# Altium integrated library TI Power Management PCMCIA and USB.IntLib: 328 symbols (part 12 of 14)
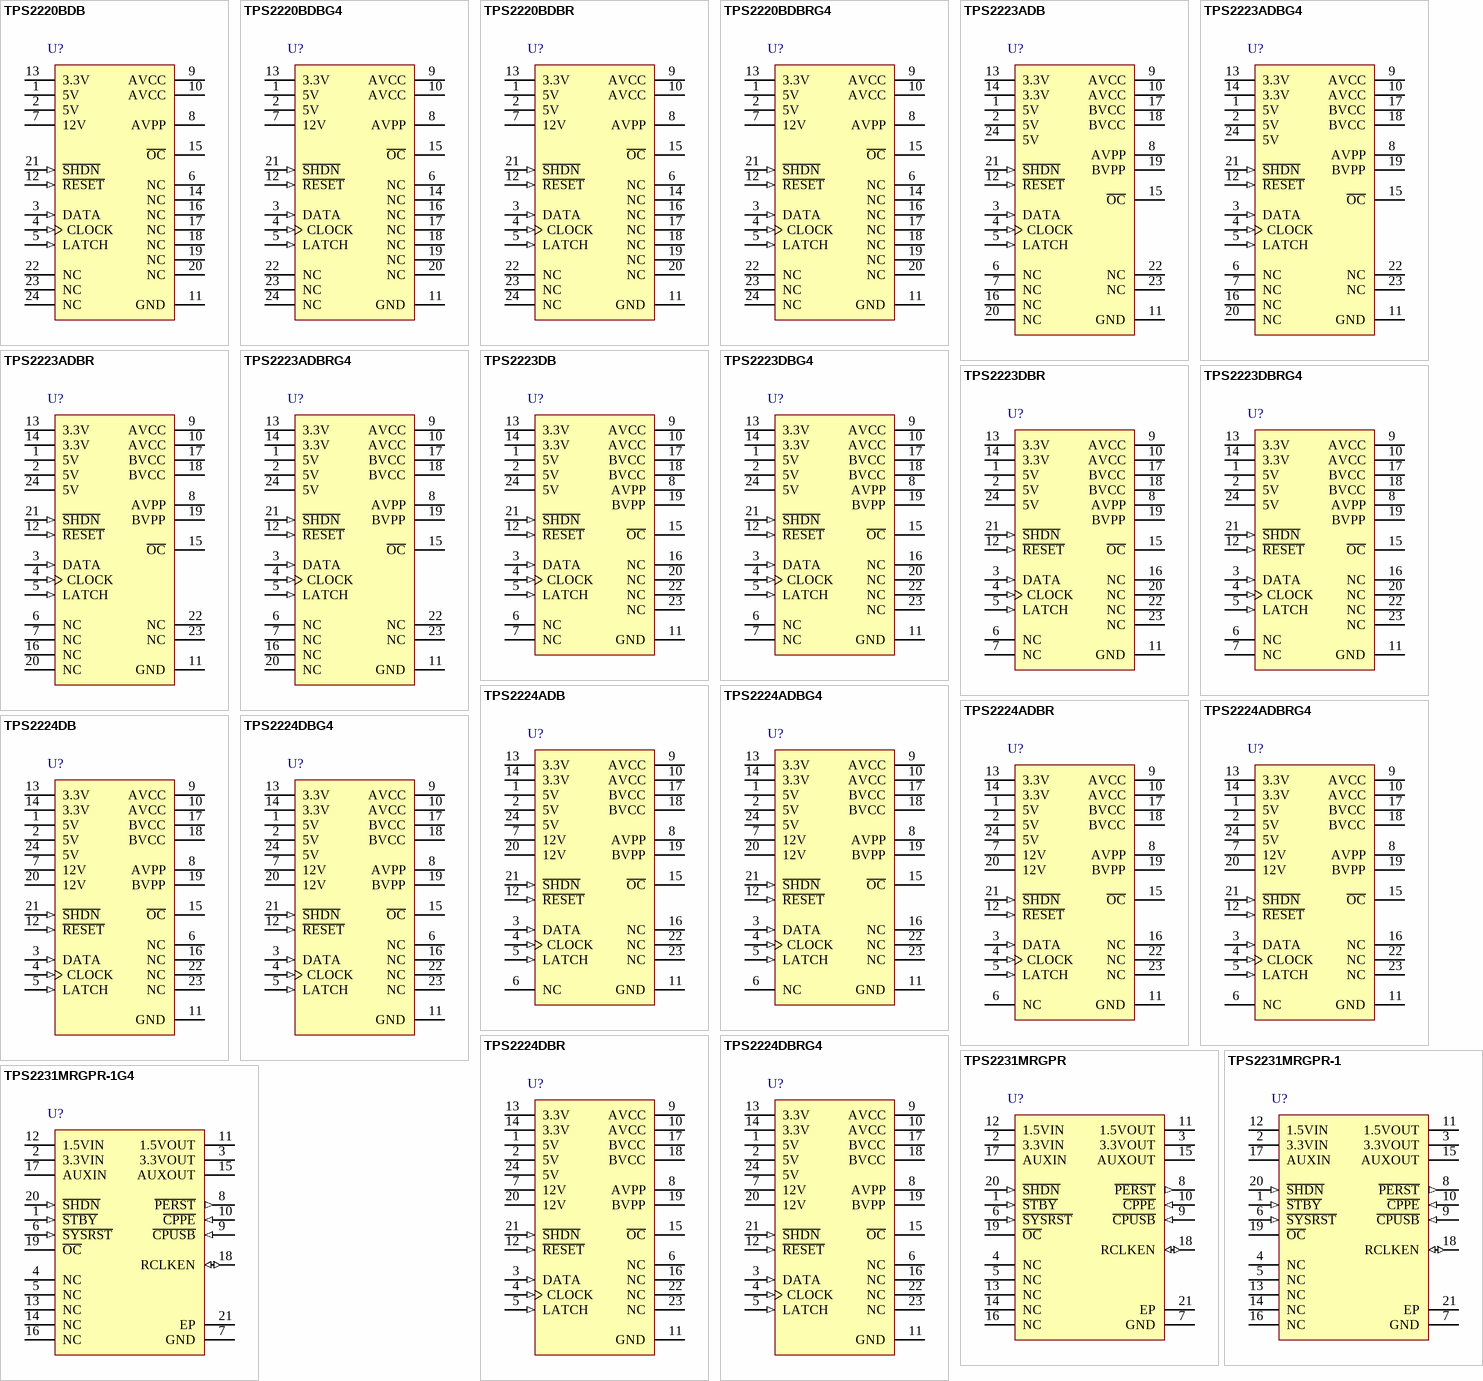
[diagram p21: symbols TPS2220BDB to TPS2231MRGPR-1G4]

## TPS2231MRGPR-1
designator U?
ExpressCard Single Power Interface Switch, -40 to 85 degC, 20-pin QFN (RGP), Green (RoHS & no Sb/Br); Manufacturer: Texas Instruments; PartNumber: TPS2231MRGPR-1; 3V rDS(on)(Typ)(mOhm): 45; Adjustable Current Limit(Min)(A): 2.5; Curr/Temp Protection: TRUE; Interface: Parallel; Ports: 1; SubFamily: PCMCIA/Cardbus Switch Matrix; DatasheetVersion: SLVS536J; PackageVersion: revG, Jul-2011; PackageReference: RGP20-2200X2200TP; PackageDescription: 20-Pin Plastic Quad Flatpack No-Lead, 4 x 4 mm Body, 0.5 mm Pitch, 2.2 x 2.2 mm Exposed Pad; Supplier 1: Digi-Key; Supplier Part Number 1: TPS2231MRGPR-1-ND; Supplier 2: Newark; Supplier Part Number 2: 58M1280; Supplier 3: Mouser; Supplier Part Number 3: 595-TPS2231MRGPR-1; 5V rDS(on)(Typ)(mOhm): 45; Over Current Reporting: TRUE; Over Temp Reporting: TRUE; Single: TRUE; Single Channel: TRUE; Mounting Technology: Surface Mount; ComponentLink1Description: Datasheet; ComponentLink1URL: http://www.ti.com/general/docs/lit/getliterature.tsp?genericPartNumber=TPS2231&fileType=pdf
footprint RGP20-2200X2200TP (QFN, 20-Leads, Body 4x4mm, Pitch 0.5mm, Thermal Pad 2.2x2.2mm, TI Recommended)
pins: 1 ~{STBY} (in) "Standby input - active low, logic level signal. Internally pulled up to AUXIN", 2 3.3VIN (power) "3.3-V input for 3.3VOUT", 3 3.3VOUT (power) "Switched output that delivers 0 V, 3.3 V or high impedance to card", 4 NC "No connection", 5 NC "No connection", 6 ~{SYSRST} (in) "System Reset input - active low, logic level signal. Internally pulled up to AUXIN", 7 GND (power) "Ground", 8 ~{PERST} (out) "A logic level power good to slot 0 (with delay)", 9 ~{CPUSB} (in) "Card Present input for USB cards. Internally pulled up to AUXIN.", 10 ~{CPPE} (in) "Card Present input for PCI Express cards. Internally pulled up to AUXIN", 11 1.5VOUT (power) "Switched output that delivers 0 V, 1.5 V or high impedance to card", 12 1.5VIN (power) "1.5-V input for 1.5VOUT", 13 NC "No connection", 14 NC "No connection", 15 AUXOUT (power) "Switched output that delivers 0 V, AUX or high impedance to card", 16 NC "No connection", 17 AUXIN (power) "AUX input for AUXOUT and chip power", 18 RCLKEN (io) "Reference Clock Enable signal. As an output, a logic level power good to host for slot 0 (no delay - open drain). As an input, if kept inactive (low) by the host, prevents P\E\R\S\T\ FROM BEING de-asserted. Internally pulled (See Datasheet)", 19 ~{OC} (oc) "Overcurrent status output for slot 0 (open drain)", 20 ~{SHDN} (in) "Shutdown input - active low, logic level signal. Internally pulled up to AUXIN", 21 EP

## TPS2231MRGPR-1G4
designator U?
ExpressCard Single Power Interface Switch, -40 to 85 degC, 20-pin QFN (RGP), Green (RoHS & no Sb/Br); Manufacturer: Texas Instruments; PartNumber: TPS2231MRGPR-1G4; 3V rDS(on)(Typ)(mOhm): 45; Adjustable Current Limit(Min)(A): 2.5; Curr/Temp Protection: TRUE; Interface: Parallel; Ports: 1; SubFamily: PCMCIA/Cardbus Switch Matrix; DatasheetVersion: SLVS536J; PackageVersion: revG, Jul-2011; PackageReference: RGP20-2200X2200TP; PackageDescription: 20-Pin Plastic Quad Flatpack No-Lead, 4 x 4 mm Body, 0.5 mm Pitch, 2.2 x 2.2 mm Exposed Pad; Supplier 1: Digi-Key; Supplier Part Number 1: TPS2231MRGPR-1G4-ND; Supplier 2: Newark; Supplier Part Number 2: 60M1786; Supplier 3: Mouser; Supplier Part Number 3: 595-TPS2231MRGPR-1G4; 5V rDS(on)(Typ)(mOhm): 45; Over Current Reporting: TRUE; Over Temp Reporting: TRUE; Single: TRUE; Single Channel: TRUE; Mounting Technology: Surface Mount; ComponentLink1Description: Datasheet; ComponentLink1URL: http://www.ti.com/general/docs/lit/getliterature.tsp?genericPartNumber=TPS2231&fileType=pdf
footprint RGP20-2200X2200TP (QFN, 20-Leads, Body 4x4mm, Pitch 0.5mm, Thermal Pad 2.2x2.2mm, TI Recommended)
pins: 1 ~{STBY} (in) "Standby input - active low, logic level signal. Internally pulled up to AUXIN", 2 3.3VIN (power) "3.3-V input for 3.3VOUT", 3 3.3VOUT (power) "Switched output that delivers 0 V, 3.3 V or high impedance to card", 4 NC "No connection", 5 NC "No connection", 6 ~{SYSRST} (in) "System Reset input - active low, logic level signal. Internally pulled up to AUXIN", 7 GND (power) "Ground", 8 ~{PERST} (out) "A logic level power good to slot 0 (with delay)", 9 ~{CPUSB} (in) "Card Present input for USB cards. Internally pulled up to AUXIN.", 10 ~{CPPE} (in) "Card Present input for PCI Express cards. Internally pulled up to AUXIN", 11 1.5VOUT (power) "Switched output that delivers 0 V, 1.5 V or high impedance to card", 12 1.5VIN (power) "1.5-V input for 1.5VOUT", 13 NC "No connection", 14 NC "No connection", 15 AUXOUT (power) "Switched output that delivers 0 V, AUX or high impedance to card", 16 NC "No connection", 17 AUXIN (power) "AUX input for AUXOUT and chip power", 18 RCLKEN (io) "Reference Clock Enable signal. As an output, a logic level power good to host for slot 0 (no delay - open drain). As an input, if kept inactive (low) by the host, prevents P\E\R\S\T\ FROM BEING de-asserted. Internally pulled (See Datasheet)", 19 ~{OC} (oc) "Overcurrent status output for slot 0 (open drain)", 20 ~{SHDN} (in) "Shutdown input - active low, logic level signal. Internally pulled up to AUXIN", 21 EP

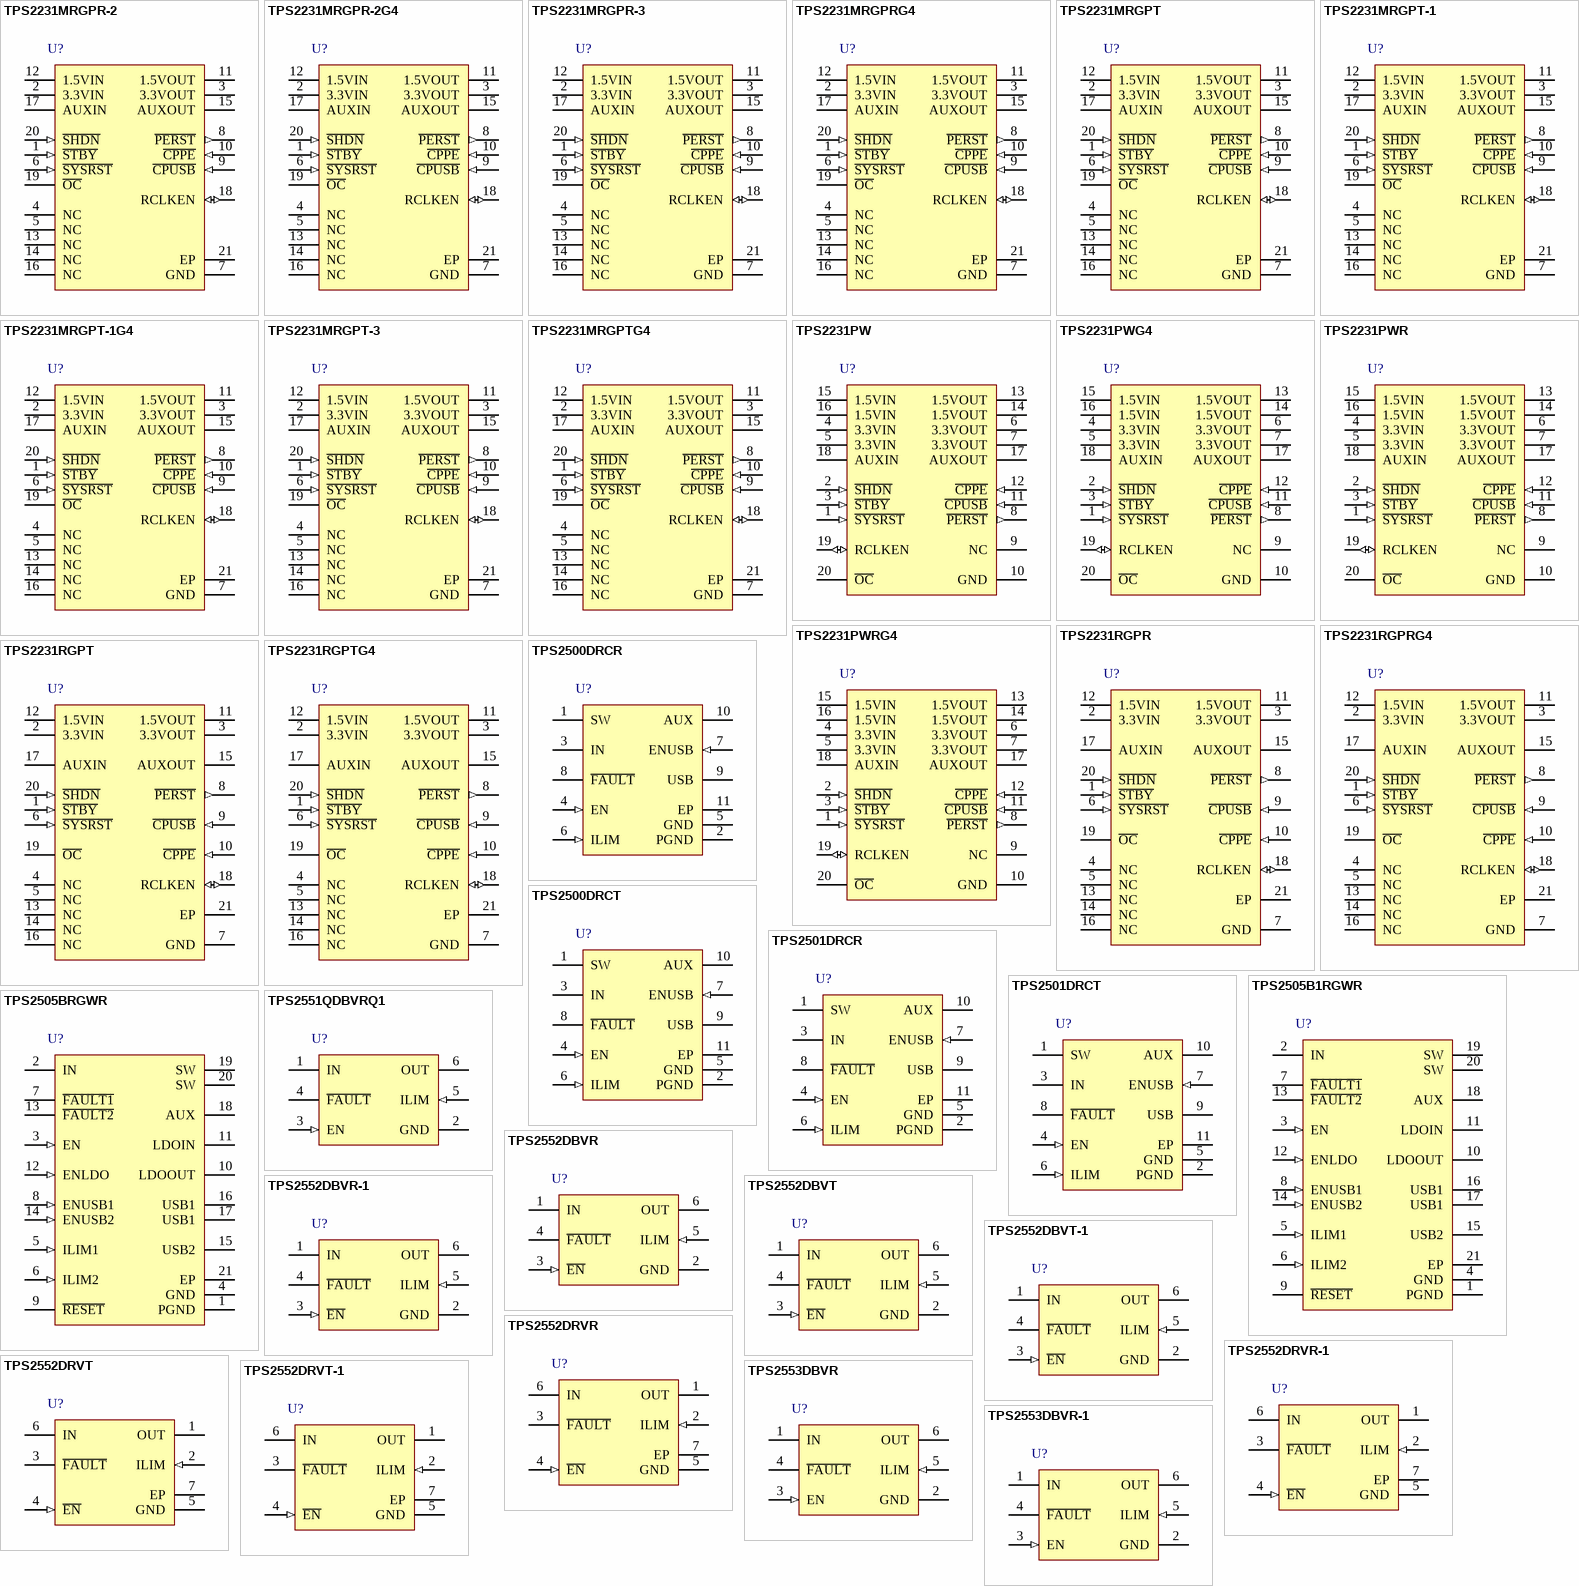
[diagram p9: symbols TPS2231MRGPR-2 to TPS2553DBVR-1]

## TPS2231MRGPR-2
designator U?
ExpressCard Single Power Interface Switch, -40 to 85 degC, 20-pin QFN (RGP), Green (RoHS & no Sb/Br); Manufacturer: Texas Instruments; PartNumber: TPS2231MRGPR-2; 3V rDS(on)(Typ)(mOhm): 45; Adjustable Current Limit(Min)(A): 2.5; Curr/Temp Protection: TRUE; Interface: Parallel; Ports: 1; SubFamily: PCMCIA/Cardbus Switch Matrix; DatasheetVersion: SLVS536J; PackageVersion: revG, Jul-2011; PackageReference: RGP20-2200X2200TP; PackageDescription: 20-Pin Plastic Quad Flatpack No-Lead, 4 x 4 mm Body, 0.5 mm Pitch, 2.2 x 2.2 mm Exposed Pad; Supplier 1: Digi-Key; Supplier Part Number 1: TPS2231MRGPR-2-ND; Supplier 2: Newark; Supplier Part Number 2: 95M0029; Supplier 3: Mouser; Supplier Part Number 3: 595-TPS2231MRGPR-2; 5V rDS(on)(Typ)(mOhm): 45; Over Current Reporting: TRUE; Over Temp Reporting: TRUE; Single: TRUE; Single Channel: TRUE; Mounting Technology: Surface Mount; ComponentLink1Description: Datasheet; ComponentLink1URL: http://www.ti.com/general/docs/lit/getliterature.tsp?genericPartNumber=TPS2231&fileType=pdf
footprint RGP20-2200X2200TP (QFN, 20-Leads, Body 4x4mm, Pitch 0.5mm, Thermal Pad 2.2x2.2mm, TI Recommended)
pins: 1 ~{STBY} (in) "Standby input - active low, logic level signal. Internally pulled up to AUXIN", 2 3.3VIN (power) "3.3-V input for 3.3VOUT", 3 3.3VOUT (power) "Switched output that delivers 0 V, 3.3 V or high impedance to card", 4 NC "No connection", 5 NC "No connection", 6 ~{SYSRST} (in) "System Reset input - active low, logic level signal. Internally pulled up to AUXIN", 7 GND (power) "Ground", 8 ~{PERST} (out) "A logic level power good to slot 0 (with delay)", 9 ~{CPUSB} (in) "Card Present input for USB cards. Internally pulled up to AUXIN.", 10 ~{CPPE} (in) "Card Present input for PCI Express cards. Internally pulled up to AUXIN", 11 1.5VOUT (power) "Switched output that delivers 0 V, 1.5 V or high impedance to card", 12 1.5VIN (power) "1.5-V input for 1.5VOUT", 13 NC "No connection", 14 NC "No connection", 15 AUXOUT (power) "Switched output that delivers 0 V, AUX or high impedance to card", 16 NC "No connection", 17 AUXIN (power) "AUX input for AUXOUT and chip power", 18 RCLKEN (io) "Reference Clock Enable signal. As an output, a logic level power good to host for slot 0 (no delay - open drain). As an input, if kept inactive (low) by the host, prevents P\E\R\S\T\ FROM BEING de-asserted. Internally pulled (See Datasheet)", 19 ~{OC} (oc) "Overcurrent status output for slot 0 (open drain)", 20 ~{SHDN} (in) "Shutdown input - active low, logic level signal. Internally pulled up to AUXIN", 21 EP

## TPS2231MRGPR-2G4
designator U?
ExpressCard Single Power Interface Switch, -40 to 85 degC, 20-pin QFN (RGP), Green (RoHS & no Sb/Br); Manufacturer: Texas Instruments; PartNumber: TPS2231MRGPR-2G4; 3V rDS(on)(Typ)(mOhm): 45; Adjustable Current Limit(Min)(A): 2.5; Curr/Temp Protection: TRUE; Interface: Parallel; Ports: 1; SubFamily: PCMCIA/Cardbus Switch Matrix; DatasheetVersion: SLVS536J; PackageVersion: revG, Jul-2011; PackageReference: RGP20-2200X2200TP; PackageDescription: 20-Pin Plastic Quad Flatpack No-Lead, 4 x 4 mm Body, 0.5 mm Pitch, 2.2 x 2.2 mm Exposed Pad; Supplier 1: Digi-Key; Supplier Part Number 1: TPS2231MRGPR-2G4-ND; Supplier 2: Mouser; Supplier Part Number 2: 595-TPS2231MRGPR-2G4; 5V rDS(on)(Typ)(mOhm): 45; Over Current Reporting: TRUE; Over Temp Reporting: TRUE; Single: TRUE; Single Channel: TRUE; Mounting Technology: Surface Mount; ComponentLink1Description: Datasheet; ComponentLink1URL: http://www.ti.com/general/docs/lit/getliterature.tsp?genericPartNumber=TPS2231&fileType=pdf
footprint RGP20-2200X2200TP (QFN, 20-Leads, Body 4x4mm, Pitch 0.5mm, Thermal Pad 2.2x2.2mm, TI Recommended)
pins: 1 ~{STBY} (in) "Standby input - active low, logic level signal. Internally pulled up to AUXIN", 2 3.3VIN (power) "3.3-V input for 3.3VOUT", 3 3.3VOUT (power) "Switched output that delivers 0 V, 3.3 V or high impedance to card", 4 NC "No connection", 5 NC "No connection", 6 ~{SYSRST} (in) "System Reset input - active low, logic level signal. Internally pulled up to AUXIN", 7 GND (power) "Ground", 8 ~{PERST} (out) "A logic level power good to slot 0 (with delay)", 9 ~{CPUSB} (in) "Card Present input for USB cards. Internally pulled up to AUXIN.", 10 ~{CPPE} (in) "Card Present input for PCI Express cards. Internally pulled up to AUXIN", 11 1.5VOUT (power) "Switched output that delivers 0 V, 1.5 V or high impedance to card", 12 1.5VIN (power) "1.5-V input for 1.5VOUT", 13 NC "No connection", 14 NC "No connection", 15 AUXOUT (power) "Switched output that delivers 0 V, AUX or high impedance to card", 16 NC "No connection", 17 AUXIN (power) "AUX input for AUXOUT and chip power", 18 RCLKEN (io) "Reference Clock Enable signal. As an output, a logic level power good to host for slot 0 (no delay - open drain). As an input, if kept inactive (low) by the host, prevents P\E\R\S\T\ FROM BEING de-asserted. Internally pulled (See Datasheet)", 19 ~{OC} (oc) "Overcurrent status output for slot 0 (open drain)", 20 ~{SHDN} (in) "Shutdown input - active low, logic level signal. Internally pulled up to AUXIN", 21 EP

## TPS2231MRGPR-3
designator U?
ExpressCard Single Power Interface Switch, -40 to 85 degC, 20-pin QFN (RGP), Green (RoHS & no Sb/Br); Manufacturer: Texas Instruments; PartNumber: TPS2231MRGPR-3; 3V rDS(on)(Typ)(mOhm): 45; Adjustable Current Limit(Min)(A): 2.5; Curr/Temp Protection: TRUE; Interface: Parallel; Ports: 1; SubFamily: PCMCIA/Cardbus Switch Matrix; DatasheetVersion: SLVS536J; PackageVersion: revG, Jul-2011; PackageReference: RGP20-2200X2200TP; PackageDescription: 20-Pin Plastic Quad Flatpack No-Lead, 4 x 4 mm Body, 0.5 mm Pitch, 2.2 x 2.2 mm Exposed Pad; Supplier 1: Digi-Key; Supplier Part Number 1: TPS2231MRGPR-3-ND; Supplier 2: Newark; Supplier Part Number 2: 55R7558; Supplier 3: Mouser; Supplier Part Number 3: 595-TPS2231MRGPR-3; 5V rDS(on)(Typ)(mOhm): 45; Over Current Reporting: TRUE; Over Temp Reporting: TRUE; Single: TRUE; Single Channel: TRUE; Mounting Technology: Surface Mount; ComponentLink1Description: Datasheet; ComponentLink1URL: http://www.ti.com/general/docs/lit/getliterature.tsp?genericPartNumber=TPS2231&fileType=pdf
footprint RGP20-2200X2200TP (QFN, 20-Leads, Body 4x4mm, Pitch 0.5mm, Thermal Pad 2.2x2.2mm, TI Recommended)
pins: 1 ~{STBY} (in) "Standby input - active low, logic level signal. Internally pulled up to AUXIN", 2 3.3VIN (power) "3.3-V input for 3.3VOUT", 3 3.3VOUT (power) "Switched output that delivers 0 V, 3.3 V or high impedance to card", 4 NC "No connection", 5 NC "No connection", 6 ~{SYSRST} (in) "System Reset input - active low, logic level signal. Internally pulled up to AUXIN", 7 GND (power) "Ground", 8 ~{PERST} (out) "A logic level power good to slot 0 (with delay)", 9 ~{CPUSB} (in) "Card Present input for USB cards. Internally pulled up to AUXIN.", 10 ~{CPPE} (in) "Card Present input for PCI Express cards. Internally pulled up to AUXIN", 11 1.5VOUT (power) "Switched output that delivers 0 V, 1.5 V or high impedance to card", 12 1.5VIN (power) "1.5-V input for 1.5VOUT", 13 NC "No connection", 14 NC "No connection", 15 AUXOUT (power) "Switched output that delivers 0 V, AUX or high impedance to card", 16 NC "No connection", 17 AUXIN (power) "AUX input for AUXOUT and chip power", 18 RCLKEN (io) "Reference Clock Enable signal. As an output, a logic level power good to host for slot 0 (no delay - open drain). As an input, if kept inactive (low) by the host, prevents P\E\R\S\T\ FROM BEING de-asserted. Internally pulled (See Datasheet)", 19 ~{OC} (oc) "Overcurrent status output for slot 0 (open drain)", 20 ~{SHDN} (in) "Shutdown input - active low, logic level signal. Internally pulled up to AUXIN", 21 EP

## TPS2231MRGPRG4
designator U?
ExpressCard Single Power Interface Switch, -40 to 85 degC, 20-pin QFN (RGP), Green (RoHS & no Sb/Br); Manufacturer: Texas Instruments; PartNumber: TPS2231MRGPRG4; 3V rDS(on)(Typ)(mOhm): 45; Adjustable Current Limit(Min)(A): 2.5; Curr/Temp Protection: TRUE; Interface: Parallel; Ports: 1; SubFamily: PCMCIA/Cardbus Switch Matrix; DatasheetVersion: SLVS536J; PackageVersion: revG, Jul-2011; PackageReference: RGP20-2200X2200TP; PackageDescription: 20-Pin Plastic Quad Flatpack No-Lead, 4 x 4 mm Body, 0.5 mm Pitch, 2.2 x 2.2 mm Exposed Pad; Supplier 1: Digi-Key; Supplier Part Number 1: TPS2231MRGPRG4-ND; Supplier 2: Newark; Supplier Part Number 2: 20M5878; Supplier 3: Mouser; Supplier Part Number 3: 595-TPS2231MRGPRG4; 5V rDS(on)(Typ)(mOhm): 45; Over Current Reporting: TRUE; Over Temp Reporting: TRUE; Single: TRUE; Single Channel: TRUE; Mounting Technology: Surface Mount; ComponentLink1Description: Datasheet; ComponentLink1URL: http://www.ti.com/general/docs/lit/getliterature.tsp?genericPartNumber=TPS2231&fileType=pdf
footprint RGP20-2200X2200TP (QFN, 20-Leads, Body 4x4mm, Pitch 0.5mm, Thermal Pad 2.2x2.2mm, TI Recommended)
pins: 1 ~{STBY} (in) "Standby input - active low, logic level signal. Internally pulled up to AUXIN", 2 3.3VIN (power) "3.3-V input for 3.3VOUT", 3 3.3VOUT (power) "Switched output that delivers 0 V, 3.3 V or high impedance to card", 4 NC "No connection", 5 NC "No connection", 6 ~{SYSRST} (in) "System Reset input - active low, logic level signal. Internally pulled up to AUXIN", 7 GND (power) "Ground", 8 ~{PERST} (out) "A logic level power good to slot 0 (with delay)", 9 ~{CPUSB} (in) "Card Present input for USB cards. Internally pulled up to AUXIN.", 10 ~{CPPE} (in) "Card Present input for PCI Express cards. Internally pulled up to AUXIN", 11 1.5VOUT (power) "Switched output that delivers 0 V, 1.5 V or high impedance to card", 12 1.5VIN (power) "1.5-V input for 1.5VOUT", 13 NC "No connection", 14 NC "No connection", 15 AUXOUT (power) "Switched output that delivers 0 V, AUX or high impedance to card", 16 NC "No connection", 17 AUXIN (power) "AUX input for AUXOUT and chip power", 18 RCLKEN (io) "Reference Clock Enable signal. As an output, a logic level power good to host for slot 0 (no delay - open drain). As an input, if kept inactive (low) by the host, prevents P\E\R\S\T\ FROM BEING de-asserted. Internally pulled (See Datasheet)", 19 ~{OC} (oc) "Overcurrent status output for slot 0 (open drain)", 20 ~{SHDN} (in) "Shutdown input - active low, logic level signal. Internally pulled up to AUXIN", 21 EP

## TPS2231MRGPT
designator U?
ExpressCard Single Power Interface Switch, -40 to 85 degC, 20-pin QFN (RGP), Green (RoHS & no Sb/Br); Manufacturer: Texas Instruments; PartNumber: TPS2231MRGPT; 3V rDS(on)(Typ)(mOhm): 45; Adjustable Current Limit(Min)(A): 2.5; Curr/Temp Protection: TRUE; Interface: Parallel; Ports: 1; SubFamily: PCMCIA/Cardbus Switch Matrix; DatasheetVersion: SLVS536J; PackageVersion: revG, Jul-2011; PackageReference: RGP20-2200X2200TP; PackageDescription: 20-Pin Plastic Quad Flatpack No-Lead, 4 x 4 mm Body, 0.5 mm Pitch, 2.2 x 2.2 mm Exposed Pad; Supplier 1: Digi-Key; Supplier Part Number 1: 296-25293-2-ND; Supplier 2: Digi-Key; Supplier Part Number 2: 296-25293-1-ND; Supplier 3: Digi-Key; Supplier Part Number 3: 296-25293-6-ND; Supplier 4: Newark; Supplier Part Number 4: 20M5879; Supplier 5: Mouser; Supplier Part Number 5: 595-TPS2231MRGPT; 5V rDS(on)(Typ)(mOhm): 45; Over Current Reporting: TRUE; Over Temp Reporting: TRUE; Single: TRUE; Single Channel: TRUE; Mounting Technology: Surface Mount; ComponentLink1Description: Datasheet; ComponentLink1URL: http://www.ti.com/general/docs/lit/getliterature.tsp?genericPartNumber=TPS2231&fileType=pdf
footprint RGP20-2200X2200TP (QFN, 20-Leads, Body 4x4mm, Pitch 0.5mm, Thermal Pad 2.2x2.2mm, TI Recommended)
pins: 1 ~{STBY} (in) "Standby input - active low, logic level signal. Internally pulled up to AUXIN", 2 3.3VIN (power) "3.3-V input for 3.3VOUT", 3 3.3VOUT (power) "Switched output that delivers 0 V, 3.3 V or high impedance to card", 4 NC "No connection", 5 NC "No connection", 6 ~{SYSRST} (in) "System Reset input - active low, logic level signal. Internally pulled up to AUXIN", 7 GND (power) "Ground", 8 ~{PERST} (out) "A logic level power good to slot 0 (with delay)", 9 ~{CPUSB} (in) "Card Present input for USB cards. Internally pulled up to AUXIN.", 10 ~{CPPE} (in) "Card Present input for PCI Express cards. Internally pulled up to AUXIN", 11 1.5VOUT (power) "Switched output that delivers 0 V, 1.5 V or high impedance to card", 12 1.5VIN (power) "1.5-V input for 1.5VOUT", 13 NC "No connection", 14 NC "No connection", 15 AUXOUT (power) "Switched output that delivers 0 V, AUX or high impedance to card", 16 NC "No connection", 17 AUXIN (power) "AUX input for AUXOUT and chip power", 18 RCLKEN (io) "Reference Clock Enable signal. As an output, a logic level power good to host for slot 0 (no delay - open drain). As an input, if kept inactive (low) by the host, prevents P\E\R\S\T\ FROM BEING de-asserted. Internally pulled (See Datasheet)", 19 ~{OC} (oc) "Overcurrent status output for slot 0 (open drain)", 20 ~{SHDN} (in) "Shutdown input - active low, logic level signal. Internally pulled up to AUXIN", 21 EP

## TPS2231MRGPT-1
designator U?
ExpressCard Single Power Interface Switch, -40 to 85 degC, 20-pin QFN (RGP), Green (RoHS & no Sb/Br); Manufacturer: Texas Instruments; PartNumber: TPS2231MRGPT-1; 3V rDS(on)(Typ)(mOhm): 45; Adjustable Current Limit(Min)(A): 2.5; Curr/Temp Protection: TRUE; Interface: Parallel; Ports: 1; SubFamily: PCMCIA/Cardbus Switch Matrix; DatasheetVersion: SLVS536J; PackageVersion: revG, Jul-2011; PackageReference: RGP20-2200X2200TP; PackageDescription: 20-Pin Plastic Quad Flatpack No-Lead, 4 x 4 mm Body, 0.5 mm Pitch, 2.2 x 2.2 mm Exposed Pad; Supplier 1: Digi-Key; Supplier Part Number 1: TPS2231MRGPT-1-ND; Supplier 2: Newark; Supplier Part Number 2: 58M1281; Supplier 3: Mouser; Supplier Part Number 3: 595-TPS2231MRGPT-1; 5V rDS(on)(Typ)(mOhm): 45; Over Current Reporting: TRUE; Over Temp Reporting: TRUE; Single: TRUE; Single Channel: TRUE; Mounting Technology: Surface Mount; ComponentLink1Description: Datasheet; ComponentLink1URL: http://www.ti.com/general/docs/lit/getliterature.tsp?genericPartNumber=TPS2231&fileType=pdf
footprint RGP20-2200X2200TP (QFN, 20-Leads, Body 4x4mm, Pitch 0.5mm, Thermal Pad 2.2x2.2mm, TI Recommended)
pins: 1 ~{STBY} (in) "Standby input - active low, logic level signal. Internally pulled up to AUXIN", 2 3.3VIN (power) "3.3-V input for 3.3VOUT", 3 3.3VOUT (power) "Switched output that delivers 0 V, 3.3 V or high impedance to card", 4 NC "No connection", 5 NC "No connection", 6 ~{SYSRST} (in) "System Reset input - active low, logic level signal. Internally pulled up to AUXIN", 7 GND (power) "Ground", 8 ~{PERST} (out) "A logic level power good to slot 0 (with delay)", 9 ~{CPUSB} (in) "Card Present input for USB cards. Internally pulled up to AUXIN.", 10 ~{CPPE} (in) "Card Present input for PCI Express cards. Internally pulled up to AUXIN", 11 1.5VOUT (power) "Switched output that delivers 0 V, 1.5 V or high impedance to card", 12 1.5VIN (power) "1.5-V input for 1.5VOUT", 13 NC "No connection", 14 NC "No connection", 15 AUXOUT (power) "Switched output that delivers 0 V, AUX or high impedance to card", 16 NC "No connection", 17 AUXIN (power) "AUX input for AUXOUT and chip power", 18 RCLKEN (io) "Reference Clock Enable signal. As an output, a logic level power good to host for slot 0 (no delay - open drain). As an input, if kept inactive (low) by the host, prevents P\E\R\S\T\ FROM BEING de-asserted. Internally pulled (See Datasheet)", 19 ~{OC} (oc) "Overcurrent status output for slot 0 (open drain)", 20 ~{SHDN} (in) "Shutdown input - active low, logic level signal. Internally pulled up to AUXIN", 21 EP

## TPS2231MRGPT-1G4
designator U?
ExpressCard Single Power Interface Switch, -40 to 85 degC, 20-pin QFN (RGP), Green (RoHS & no Sb/Br); Manufacturer: Texas Instruments; PartNumber: TPS2231MRGPT-1G4; 3V rDS(on)(Typ)(mOhm): 45; Adjustable Current Limit(Min)(A): 2.5; Curr/Temp Protection: TRUE; Interface: Parallel; Ports: 1; SubFamily: PCMCIA/Cardbus Switch Matrix; DatasheetVersion: SLVS536J; PackageVersion: revG, Jul-2011; PackageReference: RGP20-2200X2200TP; PackageDescription: 20-Pin Plastic Quad Flatpack No-Lead, 4 x 4 mm Body, 0.5 mm Pitch, 2.2 x 2.2 mm Exposed Pad; Supplier 1: Digi-Key; Supplier Part Number 1: TPS2231MRGPT-1G4-ND; Supplier 2: Newark; Supplier Part Number 2: 60M1787; Supplier 3: Mouser; Supplier Part Number 3: 595-TPS2231MRGPT-1G4; 5V rDS(on)(Typ)(mOhm): 45; Over Current Reporting: TRUE; Over Temp Reporting: TRUE; Single: TRUE; Single Channel: TRUE; Mounting Technology: Surface Mount; ComponentLink1Description: Datasheet; ComponentLink1URL: http://www.ti.com/general/docs/lit/getliterature.tsp?genericPartNumber=TPS2231&fileType=pdf
footprint RGP20-2200X2200TP (QFN, 20-Leads, Body 4x4mm, Pitch 0.5mm, Thermal Pad 2.2x2.2mm, TI Recommended)
pins: 1 ~{STBY} (in) "Standby input - active low, logic level signal. Internally pulled up to AUXIN", 2 3.3VIN (power) "3.3-V input for 3.3VOUT", 3 3.3VOUT (power) "Switched output that delivers 0 V, 3.3 V or high impedance to card", 4 NC "No connection", 5 NC "No connection", 6 ~{SYSRST} (in) "System Reset input - active low, logic level signal. Internally pulled up to AUXIN", 7 GND (power) "Ground", 8 ~{PERST} (out) "A logic level power good to slot 0 (with delay)", 9 ~{CPUSB} (in) "Card Present input for USB cards. Internally pulled up to AUXIN.", 10 ~{CPPE} (in) "Card Present input for PCI Express cards. Internally pulled up to AUXIN", 11 1.5VOUT (power) "Switched output that delivers 0 V, 1.5 V or high impedance to card", 12 1.5VIN (power) "1.5-V input for 1.5VOUT", 13 NC "No connection", 14 NC "No connection", 15 AUXOUT (power) "Switched output that delivers 0 V, AUX or high impedance to card", 16 NC "No connection", 17 AUXIN (power) "AUX input for AUXOUT and chip power", 18 RCLKEN (io) "Reference Clock Enable signal. As an output, a logic level power good to host for slot 0 (no delay - open drain). As an input, if kept inactive (low) by the host, prevents P\E\R\S\T\ FROM BEING de-asserted. Internally pulled (See Datasheet)", 19 ~{OC} (oc) "Overcurrent status output for slot 0 (open drain)", 20 ~{SHDN} (in) "Shutdown input - active low, logic level signal. Internally pulled up to AUXIN", 21 EP

## TPS2231MRGPT-3
designator U?
ExpressCard Single Power Interface Switch, -40 to 85 degC, 20-pin QFN (RGP), Green (RoHS & no Sb/Br); Manufacturer: Texas Instruments; PartNumber: TPS2231MRGPT-3; 3V rDS(on)(Typ)(mOhm): 45; Adjustable Current Limit(Min)(A): 2.5; Curr/Temp Protection: TRUE; Interface: Parallel; Ports: 1; SubFamily: PCMCIA/Cardbus Switch Matrix; DatasheetVersion: SLVS536J; PackageVersion: revG, Jul-2011; PackageReference: RGP20-2200X2200TP; PackageDescription: 20-Pin Plastic Quad Flatpack No-Lead, 4 x 4 mm Body, 0.5 mm Pitch, 2.2 x 2.2 mm Exposed Pad; Supplier 1: Digi-Key; Supplier Part Number 1: 296-25341-2-ND; Supplier 2: Digi-Key; Supplier Part Number 2: 296-25341-1-ND; Supplier 3: Digi-Key; Supplier Part Number 3: 296-25341-6-ND; Supplier 4: Newark; Supplier Part Number 4: 55R7559; Supplier 5: Mouser; Supplier Part Number 5: 595-TPS2231MRGPT-3; 5V rDS(on)(Typ)(mOhm): 45; Over Current Reporting: TRUE; Over Temp Reporting: TRUE; Single: TRUE; Single Channel: TRUE; Mounting Technology: Surface Mount; ComponentLink1Description: Datasheet; ComponentLink1URL: http://www.ti.com/general/docs/lit/getliterature.tsp?genericPartNumber=TPS2231&fileType=pdf
footprint RGP20-2200X2200TP (QFN, 20-Leads, Body 4x4mm, Pitch 0.5mm, Thermal Pad 2.2x2.2mm, TI Recommended)
pins: 1 ~{STBY} (in) "Standby input - active low, logic level signal. Internally pulled up to AUXIN", 2 3.3VIN (power) "3.3-V input for 3.3VOUT", 3 3.3VOUT (power) "Switched output that delivers 0 V, 3.3 V or high impedance to card", 4 NC "No connection", 5 NC "No connection", 6 ~{SYSRST} (in) "System Reset input - active low, logic level signal. Internally pulled up to AUXIN", 7 GND (power) "Ground", 8 ~{PERST} (out) "A logic level power good to slot 0 (with delay)", 9 ~{CPUSB} (in) "Card Present input for USB cards. Internally pulled up to AUXIN.", 10 ~{CPPE} (in) "Card Present input for PCI Express cards. Internally pulled up to AUXIN", 11 1.5VOUT (power) "Switched output that delivers 0 V, 1.5 V or high impedance to card", 12 1.5VIN (power) "1.5-V input for 1.5VOUT", 13 NC "No connection", 14 NC "No connection", 15 AUXOUT (power) "Switched output that delivers 0 V, AUX or high impedance to card", 16 NC "No connection", 17 AUXIN (power) "AUX input for AUXOUT and chip power", 18 RCLKEN (io) "Reference Clock Enable signal. As an output, a logic level power good to host for slot 0 (no delay - open drain). As an input, if kept inactive (low) by the host, prevents P\E\R\S\T\ FROM BEING de-asserted. Internally pulled (See Datasheet)", 19 ~{OC} (oc) "Overcurrent status output for slot 0 (open drain)", 20 ~{SHDN} (in) "Shutdown input - active low, logic level signal. Internally pulled up to AUXIN", 21 EP

## TPS2231MRGPTG4
designator U?
ExpressCard Single Power Interface Switch, -40 to 85 degC, 20-pin QFN (RGP), Green (RoHS & no Sb/Br); Manufacturer: Texas Instruments; PartNumber: TPS2231MRGPTG4; 3V rDS(on)(Typ)(mOhm): 45; Adjustable Current Limit(Min)(A): 2.5; Curr/Temp Protection: TRUE; Interface: Parallel; Ports: 1; SubFamily: PCMCIA/Cardbus Switch Matrix; DatasheetVersion: SLVS536J; PackageVersion: revG, Jul-2011; PackageReference: RGP20-2200X2200TP; PackageDescription: 20-Pin Plastic Quad Flatpack No-Lead, 4 x 4 mm Body, 0.5 mm Pitch, 2.2 x 2.2 mm Exposed Pad; Supplier 1: Digi-Key; Supplier Part Number 1: TPS2231MRGPTG4-ND; Supplier 2: Newark; Supplier Part Number 2: 20M5880; Supplier 3: Mouser; Supplier Part Number 3: 595-TPS2231MRGPTG4; 5V rDS(on)(Typ)(mOhm): 45; Over Current Reporting: TRUE; Over Temp Reporting: TRUE; Single: TRUE; Single Channel: TRUE; Mounting Technology: Surface Mount; ComponentLink1Description: Datasheet; ComponentLink1URL: http://www.ti.com/general/docs/lit/getliterature.tsp?genericPartNumber=TPS2231&fileType=pdf
footprint RGP20-2200X2200TP (QFN, 20-Leads, Body 4x4mm, Pitch 0.5mm, Thermal Pad 2.2x2.2mm, TI Recommended)
pins: 1 ~{STBY} (in) "Standby input - active low, logic level signal. Internally pulled up to AUXIN", 2 3.3VIN (power) "3.3-V input for 3.3VOUT", 3 3.3VOUT (power) "Switched output that delivers 0 V, 3.3 V or high impedance to card", 4 NC "No connection", 5 NC "No connection", 6 ~{SYSRST} (in) "System Reset input - active low, logic level signal. Internally pulled up to AUXIN", 7 GND (power) "Ground", 8 ~{PERST} (out) "A logic level power good to slot 0 (with delay)", 9 ~{CPUSB} (in) "Card Present input for USB cards. Internally pulled up to AUXIN.", 10 ~{CPPE} (in) "Card Present input for PCI Express cards. Internally pulled up to AUXIN", 11 1.5VOUT (power) "Switched output that delivers 0 V, 1.5 V or high impedance to card", 12 1.5VIN (power) "1.5-V input for 1.5VOUT", 13 NC "No connection", 14 NC "No connection", 15 AUXOUT (power) "Switched output that delivers 0 V, AUX or high impedance to card", 16 NC "No connection", 17 AUXIN (power) "AUX input for AUXOUT and chip power", 18 RCLKEN (io) "Reference Clock Enable signal. As an output, a logic level power good to host for slot 0 (no delay - open drain). As an input, if kept inactive (low) by the host, prevents P\E\R\S\T\ FROM BEING de-asserted. Internally pulled (See Datasheet)", 19 ~{OC} (oc) "Overcurrent status output for slot 0 (open drain)", 20 ~{SHDN} (in) "Shutdown input - active low, logic level signal. Internally pulled up to AUXIN", 21 EP

## TPS2231PW
designator U?
ExpressCard Single Power Interface Switch, -40 to 85 degC, 20-pin TSSOP (PW), Green (RoHS & no Sb/Br); Manufacturer: Texas Instruments; PartNumber: TPS2231PW; 3V rDS(on)(Typ)(mOhm): 45; Adjustable Current Limit(Min)(A): 2.5; Curr/Temp Protection: TRUE; Interface: Parallel; Ports: 1; SubFamily: PCMCIA/Cardbus Switch Matrix; DatasheetVersion: SLVS536J; PackageVersion: revG, Feb-2011; PackageReference: PW20; PackageDescription: 20-Pin Plastic Thin Small Outline Package 6.5 x 4.4 mm Body ,0.65 mm Pitch; Supplier 1: Digi-Key; Supplier Part Number 1: 296-20688-5-ND; Supplier 2: Farnell; Supplier Part Number 2: 1624394; Supplier 3: Newark; Supplier Part Number 3: 08K4935; Supplier 4: Mouser; Supplier Part Number 4: 595-TPS2231PW; 5V rDS(on)(Typ)(mOhm): 45; Over Current Reporting: TRUE; Over Temp Reporting: TRUE; Single: TRUE; Single Channel: TRUE; Mounting Technology: Surface Mount; Code_JEDEC: MO-153; ComponentLink1Description: Datasheet; ComponentLink1URL: http://www.ti.com/general/docs/lit/getliterature.tsp?genericPartNumber=TPS2231&fileType=pdf
footprint PW20_N (TSOP, 20-Leads, Body 6.5x4.4mm, Pitch 0.65mm, IPC Medium Density)
footprint PW20_L (TSOP, 20-Leads, Body 6.5x4.4mm, Pitch 0.65mm, IPC High Density)
footprint PW20_M (TSOP, 20-Leads, Body 6.5x4.4mm, Pitch 0.65mm, IPC Low Density)
pins: 1 ~{SYSRST} (in) "System Reset input - active low, logic level signal. Internally pulled up to AUXIN", 2 ~{SHDN} (in) "Shutdown input - active low, logic level signal. Internally pulled up to AUXIN", 3 ~{STBY} (in) "Standby input - active low, logic level signal. Internally pulled up to AUXIN", 4 3.3VIN (power) "3.3-V input for 3.3VOUT", 5 3.3VIN (power) "3.3-V input for 3.3VOUT", 6 3.3VOUT (power) "Switched output that delivers 0 V, 3.3 V or high impedance to card", 7 3.3VOUT (power) "Switched output that delivers 0 V, 3.3 V or high impedance to card", 8 ~{PERST} (out) "A logic level power good to slot 0 (with delay)", 9 NC "No connection", 10 GND (power) "Ground", 11 ~{CPUSB} (in) "Card Present input for USB cards. Internally pulled up to AUXIN", 12 ~{CPPE} (in) "Card Present input for PCI Express cards. Internally pulled up to AUXIN", 13 1.5VOUT (power) "Switched output that delivers 0 V, 1.5 V or high impedance to card", 14 1.5VOUT (power) "Switched output that delivers 0 V, 1.5 V or high impedance to card", 15 1.5VIN (power) "1.5-V input for 1.5VOUT", 16 1.5VIN (power) "1.5-V input for 1.5VOUT", 17 AUXOUT (power) "Switched output that delivers 0 V, AUX or high impedance to card", 18 AUXIN (power) "AUX input for AUXOUT and chip power", 19 RCLKEN (io) "Reference Clock Enable signal. As an output, a logic level power good to host for slot 0 (no delay - open drain). As an input, if kept inactive (low) by the host, prevents PERST from being de-asserted. Internally pulled up (See Datasheet)", 20 ~{OC} (oc) "Overcurrent status output for slot 0 (open drain)"

## TPS2231PWG4
designator U?
ExpressCard Single Power Interface Switch, -40 to 85 degC, 20-pin TSSOP (PW), Green (RoHS & no Sb/Br); Manufacturer: Texas Instruments; PartNumber: TPS2231PWG4; 3V rDS(on)(Typ)(mOhm): 45; Adjustable Current Limit(Min)(A): 2.5; Curr/Temp Protection: TRUE; Interface: Parallel; Ports: 1; SubFamily: PCMCIA/Cardbus Switch Matrix; DatasheetVersion: SLVS536J; PackageVersion: revG, Feb-2011; PackageReference: PW20; PackageDescription: 20-Pin Plastic Thin Small Outline Package 6.5 x 4.4 mm Body ,0.65 mm Pitch; Supplier 1: Digi-Key; Supplier Part Number 1: TPS2231PWG4-ND; Supplier 2: Newark; Supplier Part Number 2: 24K5851; Supplier 3: Mouser; Supplier Part Number 3: 595-TPS2231PWG4; 5V rDS(on)(Typ)(mOhm): 45; Over Current Reporting: TRUE; Over Temp Reporting: TRUE; Single: TRUE; Single Channel: TRUE; Mounting Technology: Surface Mount; Code_JEDEC: MO-153; ComponentLink1Description: Datasheet; ComponentLink1URL: http://www.ti.com/general/docs/lit/getliterature.tsp?genericPartNumber=TPS2231&fileType=pdf
footprint PW20_N (TSOP, 20-Leads, Body 6.5x4.4mm, Pitch 0.65mm, IPC Medium Density)
footprint PW20_L (TSOP, 20-Leads, Body 6.5x4.4mm, Pitch 0.65mm, IPC High Density)
footprint PW20_M (TSOP, 20-Leads, Body 6.5x4.4mm, Pitch 0.65mm, IPC Low Density)
pins: 1 ~{SYSRST} (in) "System Reset input - active low, logic level signal. Internally pulled up to AUXIN", 2 ~{SHDN} (in) "Shutdown input - active low, logic level signal. Internally pulled up to AUXIN", 3 ~{STBY} (in) "Standby input - active low, logic level signal. Internally pulled up to AUXIN", 4 3.3VIN (power) "3.3-V input for 3.3VOUT", 5 3.3VIN (power) "3.3-V input for 3.3VOUT", 6 3.3VOUT (power) "Switched output that delivers 0 V, 3.3 V or high impedance to card", 7 3.3VOUT (power) "Switched output that delivers 0 V, 3.3 V or high impedance to card", 8 ~{PERST} (out) "A logic level power good to slot 0 (with delay)", 9 NC "No connection", 10 GND (power) "Ground", 11 ~{CPUSB} (in) "Card Present input for USB cards. Internally pulled up to AUXIN", 12 ~{CPPE} (in) "Card Present input for PCI Express cards. Internally pulled up to AUXIN", 13 1.5VOUT (power) "Switched output that delivers 0 V, 1.5 V or high impedance to card", 14 1.5VOUT (power) "Switched output that delivers 0 V, 1.5 V or high impedance to card", 15 1.5VIN (power) "1.5-V input for 1.5VOUT", 16 1.5VIN (power) "1.5-V input for 1.5VOUT", 17 AUXOUT (power) "Switched output that delivers 0 V, AUX or high impedance to card", 18 AUXIN (power) "AUX input for AUXOUT and chip power", 19 RCLKEN (io) "Reference Clock Enable signal. As an output, a logic level power good to host for slot 0 (no delay - open drain). As an input, if kept inactive (low) by the host, prevents PERST from being de-asserted. Internally pulled up (See Datasheet)", 20 ~{OC} (oc) "Overcurrent status output for slot 0 (open drain)"

## TPS2231PWR
designator U?
ExpressCard Single Power Interface Switch, -40 to 85 degC, 20-pin TSSOP (PW), Green (RoHS & no Sb/Br); Manufacturer: Texas Instruments; PartNumber: TPS2231PWR; 3V rDS(on)(Typ)(mOhm): 45; Adjustable Current Limit(Min)(A): 2.5; Curr/Temp Protection: TRUE; Interface: Parallel; Ports: 1; SubFamily: PCMCIA/Cardbus Switch Matrix; DatasheetVersion: SLVS536J; PackageVersion: revG, Feb-2011; PackageReference: PW20; PackageDescription: 20-Pin Plastic Thin Small Outline Package 6.5 x 4.4 mm Body ,0.65 mm Pitch; Supplier 1: Digi-Key; Supplier Part Number 1: TPS2231PWR-ND; Supplier 2: Newark; Supplier Part Number 2: 52K5933; Supplier 3: Mouser; Supplier Part Number 3: 595-TPS2231PWR; 5V rDS(on)(Typ)(mOhm): 45; Over Current Reporting: TRUE; Over Temp Reporting: TRUE; Single: TRUE; Single Channel: TRUE; Mounting Technology: Surface Mount; Code_JEDEC: MO-153; ComponentLink1Description: Datasheet; ComponentLink1URL: http://www.ti.com/general/docs/lit/getliterature.tsp?genericPartNumber=TPS2231&fileType=pdf
footprint PW20_N (TSOP, 20-Leads, Body 6.5x4.4mm, Pitch 0.65mm, IPC Medium Density)
footprint PW20_L (TSOP, 20-Leads, Body 6.5x4.4mm, Pitch 0.65mm, IPC High Density)
footprint PW20_M (TSOP, 20-Leads, Body 6.5x4.4mm, Pitch 0.65mm, IPC Low Density)
pins: 1 ~{SYSRST} (in) "System Reset input - active low, logic level signal. Internally pulled up to AUXIN", 2 ~{SHDN} (in) "Shutdown input - active low, logic level signal. Internally pulled up to AUXIN", 3 ~{STBY} (in) "Standby input - active low, logic level signal. Internally pulled up to AUXIN", 4 3.3VIN (power) "3.3-V input for 3.3VOUT", 5 3.3VIN (power) "3.3-V input for 3.3VOUT", 6 3.3VOUT (power) "Switched output that delivers 0 V, 3.3 V or high impedance to card", 7 3.3VOUT (power) "Switched output that delivers 0 V, 3.3 V or high impedance to card", 8 ~{PERST} (out) "A logic level power good to slot 0 (with delay)", 9 NC "No connection", 10 GND (power) "Ground", 11 ~{CPUSB} (in) "Card Present input for USB cards. Internally pulled up to AUXIN", 12 ~{CPPE} (in) "Card Present input for PCI Express cards. Internally pulled up to AUXIN", 13 1.5VOUT (power) "Switched output that delivers 0 V, 1.5 V or high impedance to card", 14 1.5VOUT (power) "Switched output that delivers 0 V, 1.5 V or high impedance to card", 15 1.5VIN (power) "1.5-V input for 1.5VOUT", 16 1.5VIN (power) "1.5-V input for 1.5VOUT", 17 AUXOUT (power) "Switched output that delivers 0 V, AUX or high impedance to card", 18 AUXIN (power) "AUX input for AUXOUT and chip power", 19 RCLKEN (io) "Reference Clock Enable signal. As an output, a logic level power good to host for slot 0 (no delay - open drain). As an input, if kept inactive (low) by the host, prevents PERST from being de-asserted. Internally pulled up (See Datasheet)", 20 ~{OC} (oc) "Overcurrent status output for slot 0 (open drain)"

## TPS2231PWRG4
designator U?
ExpressCard Single Power Interface Switch, -40 to 85 degC, 20-pin TSSOP (PW), Green (RoHS & no Sb/Br); Manufacturer: Texas Instruments; PartNumber: TPS2231PWRG4; 3V rDS(on)(Typ)(mOhm): 45; Adjustable Current Limit(Min)(A): 2.5; Curr/Temp Protection: TRUE; Interface: Parallel; Ports: 1; SubFamily: PCMCIA/Cardbus Switch Matrix; DatasheetVersion: SLVS536J; PackageVersion: revG, Feb-2011; PackageReference: PW20; PackageDescription: 20-Pin Plastic Thin Small Outline Package 6.5 x 4.4 mm Body ,0.65 mm Pitch; Supplier 1: Digi-Key; Supplier Part Number 1: TPS2231PWRG4-ND; Supplier 2: Newark; Supplier Part Number 2: 52K5934; Supplier 3: Mouser; Supplier Part Number 3: 595-TPS2231PWRG4; 5V rDS(on)(Typ)(mOhm): 45; Over Current Reporting: TRUE; Over Temp Reporting: TRUE; Single: TRUE; Single Channel: TRUE; Mounting Technology: Surface Mount; Code_JEDEC: MO-153; ComponentLink1Description: Datasheet; ComponentLink1URL: http://www.ti.com/general/docs/lit/getliterature.tsp?genericPartNumber=TPS2231&fileType=pdf
footprint PW20_N (TSOP, 20-Leads, Body 6.5x4.4mm, Pitch 0.65mm, IPC Medium Density)
footprint PW20_L (TSOP, 20-Leads, Body 6.5x4.4mm, Pitch 0.65mm, IPC High Density)
footprint PW20_M (TSOP, 20-Leads, Body 6.5x4.4mm, Pitch 0.65mm, IPC Low Density)
pins: 1 ~{SYSRST} (in) "System Reset input - active low, logic level signal. Internally pulled up to AUXIN", 2 ~{SHDN} (in) "Shutdown input - active low, logic level signal. Internally pulled up to AUXIN", 3 ~{STBY} (in) "Standby input - active low, logic level signal. Internally pulled up to AUXIN", 4 3.3VIN (power) "3.3-V input for 3.3VOUT", 5 3.3VIN (power) "3.3-V input for 3.3VOUT", 6 3.3VOUT (power) "Switched output that delivers 0 V, 3.3 V or high impedance to card", 7 3.3VOUT (power) "Switched output that delivers 0 V, 3.3 V or high impedance to card", 8 ~{PERST} (out) "A logic level power good to slot 0 (with delay)", 9 NC "No connection", 10 GND (power) "Ground", 11 ~{CPUSB} (in) "Card Present input for USB cards. Internally pulled up to AUXIN", 12 ~{CPPE} (in) "Card Present input for PCI Express cards. Internally pulled up to AUXIN", 13 1.5VOUT (power) "Switched output that delivers 0 V, 1.5 V or high impedance to card", 14 1.5VOUT (power) "Switched output that delivers 0 V, 1.5 V or high impedance to card", 15 1.5VIN (power) "1.5-V input for 1.5VOUT", 16 1.5VIN (power) "1.5-V input for 1.5VOUT", 17 AUXOUT (power) "Switched output that delivers 0 V, AUX or high impedance to card", 18 AUXIN (power) "AUX input for AUXOUT and chip power", 19 RCLKEN (io) "Reference Clock Enable signal. As an output, a logic level power good to host for slot 0 (no delay - open drain). As an input, if kept inactive (low) by the host, prevents PERST from being de-asserted. Internally pulled up (See Datasheet)", 20 ~{OC} (oc) "Overcurrent status output for slot 0 (open drain)"

## TPS2231RGPR
designator U?
ExpressCard Single Power Interface Switch, -40 to 85 degC, 20-pin QFN (RGP), Green (RoHS & no Sb/Br); Manufacturer: Texas Instruments; PartNumber: TPS2231RGPR; 3V rDS(on)(Typ)(mOhm): 45; Adjustable Current Limit(Min)(A): 2.5; Curr/Temp Protection: TRUE; Interface: Parallel; Ports: 1; SubFamily: PCMCIA/Cardbus Switch Matrix; DatasheetVersion: SLVS536J; PackageVersion: revG, Jul-2011; PackageReference: RGP20-2700X2700TP; PackageDescription: 20-Pin Plastic Quad Flatpack No-Lead, 4 x 4 mm Body, 0.5 mm Pitch; Supplier 1: Digi-Key; Supplier Part Number 1: TPS2231RGPR-ND; Supplier 2: Newark; Supplier Part Number 2: 33K7573; Supplier 3: Mouser; Supplier Part Number 3: 595-TPS2231RGPR; 5V rDS(on)(Typ)(mOhm): 45; Over Current Reporting: TRUE; Over Temp Reporting: TRUE; Single: TRUE; Single Channel: TRUE; Mounting Technology: Surface Mount; Code_JEDEC: MO-220; ComponentLink1Description: Datasheet; ComponentLink1URL: http://www.ti.com/general/docs/lit/getliterature.tsp?genericPartNumber=TPS2231&fileType=pdf
footprint RGP20-2700X2700TP (QFN, 20-Leads, Body 4x4mm, Pitch 0.5mm, Thermal Pad 2.7x2.7mm, TI Recommended)
pins: 1 ~{STBY} (in) "Standby input - active low, logic level signal. Internally pulled up to AUXIN.", 2 3.3VIN (power) "3.3-V input for 3.3VOUT", 3 3.3VOUT (power) "Switched output that delivers 0 V, 3.3 V or high impedance to card", 4 NC "No connection", 5 NC "No connection", 6 ~{SYSRST} (in) "System Reset input - active low, logic level signal. Internally pulled up to AUXIN.", 7 GND (power) "Ground", 8 ~{PERST} (out) "A logic level power good to slot 0 (with delay)", 9 ~{CPUSB} (in) "Card Present input for USB cards. Internally pulled up to AUXIN.", 10 ~{CPPE} (in) "Card Present input for PCI Express cards. Internally pulled up to AUXIN", 11 1.5VOUT (power) "Switched output that delivers 0 V, 1.5 V or high impedance to card", 12 1.5VIN (power) "1.5-V input for 1.5VOUT", 13 NC "No connection", 14 NC "No connection", 15 AUXOUT (power) "Switched output that delivers 0 V, AUX or high impedance to card", 16 NC "No connection", 17 AUXIN (power) "AUX input for AUXOUT and chip power", 18 RCLKEN (io) "Reference Clock Enable signal. As an output, a logic level power good to host for slot 0 (no delay - open drain). As an input, if kept inactive (low) by the host, prevents PERST from being de-asserted. Internally pulled up (See Datasheet)", 19 ~{OC} (oc) "Overcurrent status output for slot 0 (open drain)", 20 ~{SHDN} (in) "Shutdown input - active low, logic level signal. Internally pulled up to AUXIN.", 21 EP "Exposed Thermal Pad"

## TPS2231RGPRG4
designator U?
ExpressCard Single Power Interface Switch, -40 to 85 degC, 20-pin QFN (RGP), Green (RoHS & no Sb/Br); Manufacturer: Texas Instruments; PartNumber: TPS2231RGPRG4; 3V rDS(on)(Typ)(mOhm): 45; Adjustable Current Limit(Min)(A): 2.5; Curr/Temp Protection: TRUE; Interface: Parallel; Ports: 1; SubFamily: PCMCIA/Cardbus Switch Matrix; DatasheetVersion: SLVS536J; PackageVersion: revG, Jul-2011; PackageReference: RGP20-2700X2700TP; PackageDescription: 20-Pin Plastic Quad Flatpack No-Lead, 4 x 4 mm Body, 0.5 mm Pitch; Supplier 1: Digi-Key; Supplier Part Number 1: TPS2231RGPRG4-ND; Supplier 2: Newark; Supplier Part Number 2: 58K6903; Supplier 3: Mouser; Supplier Part Number 3: 595-TPS2231RGPRG4; 5V rDS(on)(Typ)(mOhm): 45; Over Current Reporting: TRUE; Over Temp Reporting: TRUE; Single: TRUE; Single Channel: TRUE; Mounting Technology: Surface Mount; Code_JEDEC: MO-220; ComponentLink1Description: Datasheet; ComponentLink1URL: http://www.ti.com/general/docs/lit/getliterature.tsp?genericPartNumber=TPS2231&fileType=pdf
footprint RGP20-2700X2700TP (QFN, 20-Leads, Body 4x4mm, Pitch 0.5mm, Thermal Pad 2.7x2.7mm, TI Recommended)
pins: 1 ~{STBY} (in) "Standby input - active low, logic level signal. Internally pulled up to AUXIN.", 2 3.3VIN (power) "3.3-V input for 3.3VOUT", 3 3.3VOUT (power) "Switched output that delivers 0 V, 3.3 V or high impedance to card", 4 NC "No connection", 5 NC "No connection", 6 ~{SYSRST} (in) "System Reset input - active low, logic level signal. Internally pulled up to AUXIN.", 7 GND (power) "Ground", 8 ~{PERST} (out) "A logic level power good to slot 0 (with delay)", 9 ~{CPUSB} (in) "Card Present input for USB cards. Internally pulled up to AUXIN.", 10 ~{CPPE} (in) "Card Present input for PCI Express cards. Internally pulled up to AUXIN", 11 1.5VOUT (power) "Switched output that delivers 0 V, 1.5 V or high impedance to card", 12 1.5VIN (power) "1.5-V input for 1.5VOUT", 13 NC "No connection", 14 NC "No connection", 15 AUXOUT (power) "Switched output that delivers 0 V, AUX or high impedance to card", 16 NC "No connection", 17 AUXIN (power) "AUX input for AUXOUT and chip power", 18 RCLKEN (io) "Reference Clock Enable signal. As an output, a logic level power good to host for slot 0 (no delay - open drain). As an input, if kept inactive (low) by the host, prevents PERST from being de-asserted. Internally pulled up (See Datasheet)", 19 ~{OC} (oc) "Overcurrent status output for slot 0 (open drain)", 20 ~{SHDN} (in) "Shutdown input - active low, logic level signal. Internally pulled up to AUXIN.", 21 EP "Exposed Thermal Pad"

## TPS2231RGPT
designator U?
ExpressCard Single Power Interface Switch, 20-pin QFN (RGP), Green (RoHS & no Sb/Br); Manufacturer: Texas Instruments; PartNumber: TPS2231RGPT; 3V rDS(on)(Typ)(mOhm): 45; Adjustable Current Limit(Min)(A): 2.5; Curr/Temp Protection: TRUE; Interface: Parallel; Ports: 1; SubFamily: PCMCIA/Cardbus Switch Matrix; DatasheetVersion: SLVS536J; PackageVersion: revG, Jul-2011; PackageReference: RGP20-2700X2700TP; PackageDescription: 20-Pin Plastic Quad Flatpack No-Lead, 4 x 4 mm Body, 0.5 mm Pitch; Supplier 1: Digi-Key; Supplier Part Number 1: 296-18035-2-ND; Supplier 2: Digi-Key; Supplier Part Number 2: 296-18035-1-ND; Supplier 3: Digi-Key; Supplier Part Number 3: 296-18035-6-ND; Supplier 4: Newark; Supplier Part Number 4: 33K7574; Supplier 5: Mouser; Supplier Part Number 5: 595-TPS2231RGPT; 5V rDS(on)(Typ)(mOhm): 45; Over Current Reporting: TRUE; Over Temp Reporting: TRUE; Single: TRUE; Single Channel: TRUE; Mounting Technology: Surface Mount; Code_JEDEC: MO-220; ComponentLink1Description: Datasheet; ComponentLink1URL: http://www.ti.com/general/docs/lit/getliterature.tsp?genericPartNumber=TPS2231&fileType=pdf
footprint RGP20-2700X2700TP (QFN, 20-Leads, Body 4x4mm, Pitch 0.5mm, Thermal Pad 2.7x2.7mm, TI Recommended)
pins: 1 ~{STBY} (in) "Standby input - active low, logic level signal. Internally pulled up to AUXIN.", 2 3.3VIN (power) "3.3-V input for 3.3VOUT", 3 3.3VOUT (power) "Switched output that delivers 0 V, 3.3 V or high impedance to card", 4 NC "No connection", 5 NC "No connection", 6 ~{SYSRST} (in) "System Reset input - active low, logic level signal. Internally pulled up to AUXIN.", 7 GND (power) "Ground", 8 ~{PERST} (out) "A logic level power good to slot 0 (with delay)", 9 ~{CPUSB} (in) "Card Present input for USB cards. Internally pulled up to AUXIN.", 10 ~{CPPE} (in) "Card Present input for PCI Express cards. Internally pulled up to AUXIN", 11 1.5VOUT (power) "Switched output that delivers 0 V, 1.5 V or high impedance to card", 12 1.5VIN (power) "1.5-V input for 1.5VOUT", 13 NC "No connection", 14 NC "No connection", 15 AUXOUT (power) "Switched output that delivers 0 V, AUX or high impedance to card", 16 NC "No connection", 17 AUXIN (power) "AUX input for AUXOUT and chip power", 18 RCLKEN (io) "Reference Clock Enable signal. As an output, a logic level power good to host for slot 0 (no delay - open drain). As an input, if kept inactive (low) by the host, prevents PERST from being de-asserted. Internally pulled up (See Datasheet)", 19 ~{OC} (oc) "Overcurrent status output for slot 0 (open drain)", 20 ~{SHDN} (in) "Shutdown input - active low, logic level signal. Internally pulled up to AUXIN.", 21 EP "Exposed Thermal Pad"